# EAGLE library part DIP-BLACK-MALE-HEADER-VERT(13P-2.54) (library Seeed-OPL-Connector)
320020052
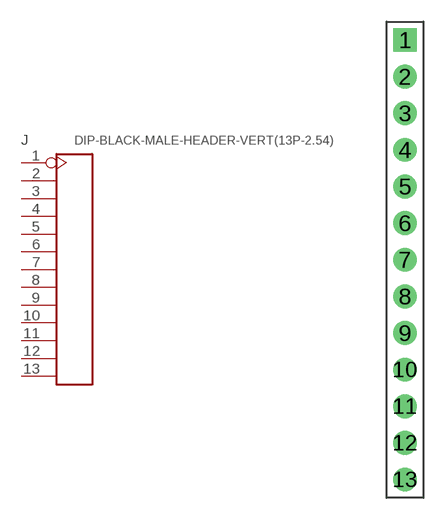
[diagram p115: symbol with the pads of H13-2.54; footprint H13-2.54]

Designator prefix J

## DIP-BLACK-MALE-HEADER-VERT(13P-2.54) (MPN: P125-1113A0BS116AX; VALUE: 13p-2.54)  [H13-2.54]
1  1
2  2
3  3
4  4
5  5
6  6
7  7
8  8
9  9
10  10
11  11
12  12
13  13

## Footprint H13-2.54 (pad centres in mm)
drill 0.889 pad 1.651 square: 1 0,15.24
drill 0.889 pad 1.651: 2 0,12.7; 3 0,10.16; 4 0,7.62; 5 0,5.08; 6 0,2.54; 7 0,0; 8 0,-2.54; 9 0,-5.08; 10 0,-7.62; 11 0,-10.16; 12 0,-12.7; 13 0,-15.24